# Altium footprint library pcb.PcbLib: 11 footprints
Each footprint in its own frame and in the unit in brackets; x right, y up, seen from the top. Pads: shape width x height; smd on the part's side, far side on the other; paste and mask are expansions set on the pad; w line width, h text height; cw(c..) or ccw(c..) is an arc to the next point about the centre after c.
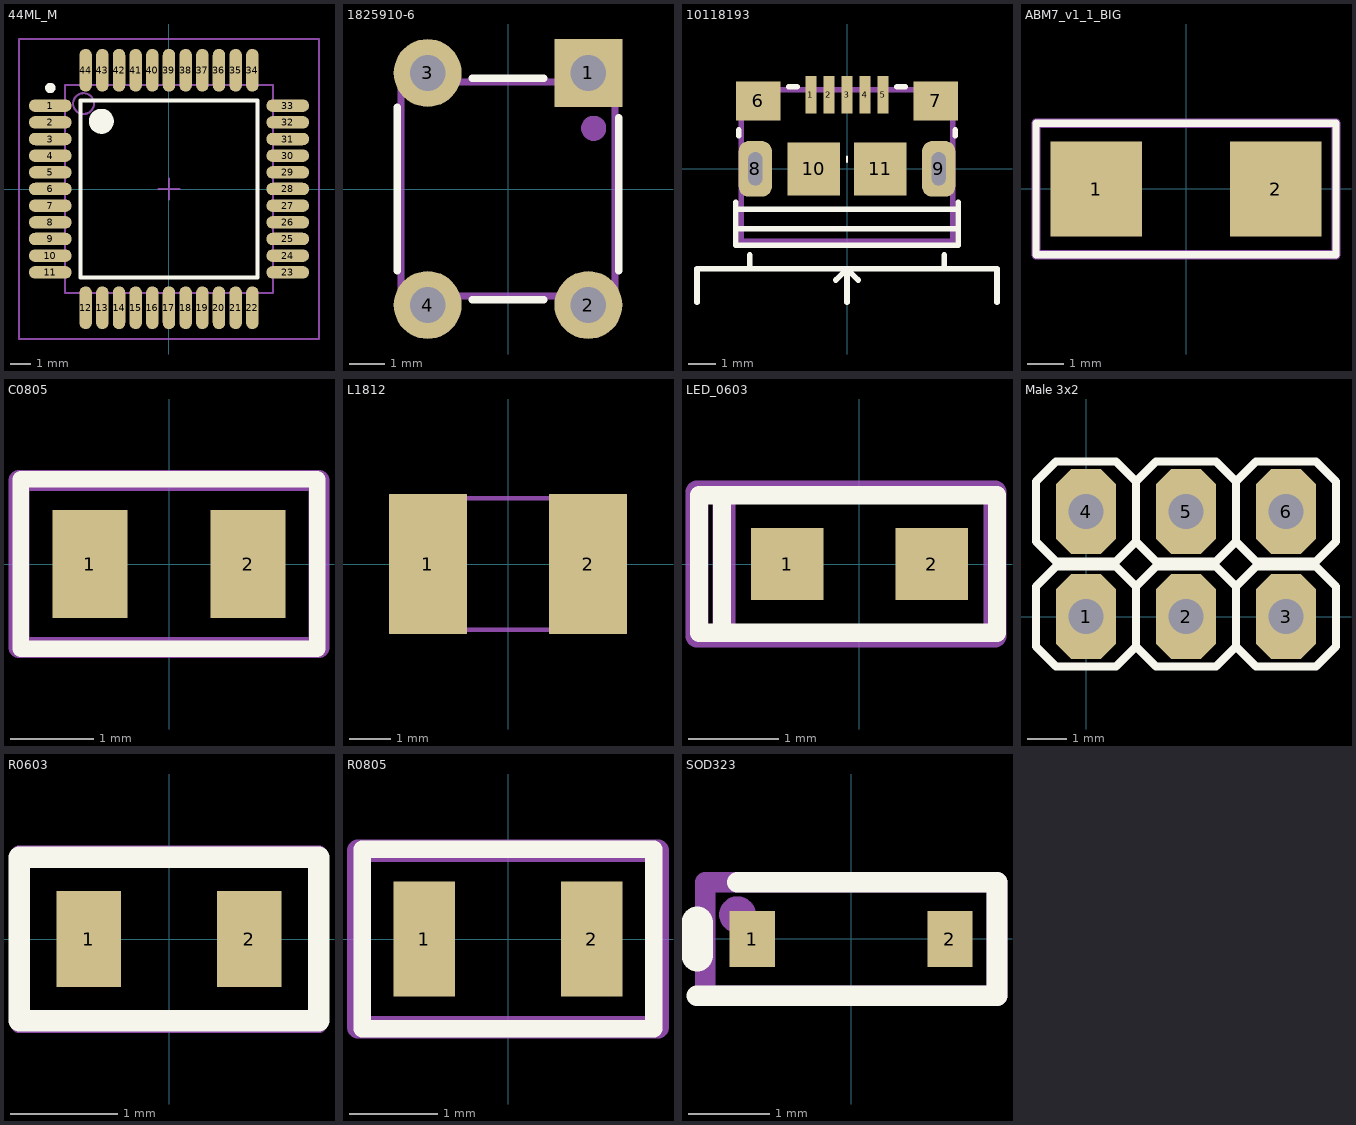
[diagram p0: the footprints below, top view; thin cyan lines are the x and y axes]

## 44ML_M [mm] "Thin QFP, 44-Leads, Body 10x10mm, Pitch 0.8mm, IPC Low Density"
height 1.2
pads (44):
  oval 2.05x0.6 smd: 1(-5.7,4) 2(-5.7,3.2) 3(-5.7,2.4) 4(-5.7,1.6) 5(-5.7,0.8) 6(-5.7,0) 7(-5.7,-0.8) 8(-5.7,-1.6) 9(-5.7,-2.4) 10(-5.7,-3.2) 11(-5.7,-4) 23(5.7,-4) 24(5.7,-3.2) 25(5.7,-2.4) 26(5.7,-1.6) 27(5.7,-0.8) 28(5.7,0) 29(5.7,0.8) 30(5.7,1.6) 31(5.7,2.4) 32(5.7,3.2) 33(5.7,4)
  oval 0.6x2.05 smd: 12(-4,-5.7) 13(-3.2,-5.7) 14(-2.4,-5.7) 15(-1.6,-5.7) 16(-0.8,-5.7) 17(0,-5.7) 18(0.8,-5.7) 19(1.6,-5.7) 20(2.4,-5.7) 21(3.2,-5.7) 22(4,-5.7) 34(4,5.7) 35(3.2,5.7) 36(2.4,5.7) 37(1.6,5.7) 38(0.8,5.7) 39(0,5.7) 40(-0.8,5.7) 41(-1.6,5.7) 42(-2.4,5.7) 43(-3.2,5.7) 44(-4,5.7)
Top Overlay:
  circle w0.25: c-5.7,4.85 r0.125
  circle w0.6: c-3.25,3.25 r0.3
  lines w0.2: -4.25,-4.25 -4.25,4.25 4.25,4.25 4.25,-4.25 -4.25,-4.25
Mechanical 13:
  circle w0.1: c-4.1,4.1 r0.5
  lines w0.1: -5,-5 -5,5 5,5 5,-5 -5,-5
Mechanical 15:
  lines w0.1: -0.5,0 0.5,0 ; 0,-0.5 0,0.5 ; -7.2,-7.2 -7.2,7.2 7.2,7.2 7.2,-7.2 -7.2,-7.2
3D body: height 1.2, standoff 0, extent -5,-5 5,5

## 1825910-6 [mm]
pads (4):
  rect 1.9x1.9 hole 1: 1(2.25,3.25)
  round 1.9 hole 1: 2(2.25,-3.25) 3(-2.25,3.25) 4(-2.25,-3.25)
Top Overlay:
  lines w0.2: -3.1,-2.3 -3.1,2.3 ; -1,-3.1 1,-3.1 ; -1,3.1 1,3.1 ; 3.1,-2.3 3.1,2
Mechanical 16:
  circle w0.5: c2.4,1.7 r0.1
  lines w0.2: -3,-3 -3,3 3,3 3,-3 -3,-3
Mechanical 29:
  text ".Designator" at 0.6,-1.8 h1.6
3D body "FSM4JLH(1825910-5).step": height 5, standoff -3.51, extent -2.995,-3.898 2.995,3.9

## 10118193 [mm]
pads (11):
  rect 0.4x1.35 smd mask+0.05: 1(-1.3,2.675) 2(-0.65,2.675) 3(0,2.675) 4(0.65,2.675) 5(1.3,2.675)
  rect 1.6x1.4 smd: 6(-3.2,2.45) 7(3.2,2.45)
  rrect60% 1.2x2 hole 0.5 slot 1.2 at 90 deg: 8(-3.3,0) 9(3.3,0)
  rect 1.9x1.9 smd paste-10: 10(-1.2,0) 11(1.2,0)
Top Overlay:
  lines w0.08: 0,0.25 0,0.45
  lines w0.2: -5.4,-4.8 -5.4,-3.6 5.4,-3.6 5.4,-4.8 ; -4,-2.15 4,-2.15 ; -4,-1.45 4,-1.45 ; -4,-1.2 -4,-2.75 4,-2.75 4,-1.2 ; -3.9,1.2 -3.9,1.4 ; -3.5,-3.6 -3.5,-3.1 ; -2.1,2.95 -1.8,2.95 ; -0.4,-4 0,-3.6 ; 0,-4.8 0,-3.6 ; 0.4,-4 0,-3.6 ; 1.8,2.95 2.1,2.95 ; 3.5,-3.6 3.5,-3.1 ; 3.9,1.2 3.9,1.4
Mechanical 16:
  lines w0.2: -3.8,-2.6 3.8,-2.6 3.8,2.85 -3.8,2.85 -3.8,-2.6
Mechanical 29:
  text ".Designator" at 0.6,-1.2 h1.52
3D body "10118193.step": height 2.85, standoff -0.75, extent -3.929,-2.76 3.928,2.9

## ABM7_v1_1_BIG [mm]
pads (2):
  rect 2.5x2.6 smd: 1(-2.45,0) 2(2.45,0)
Top Overlay:
  lines w0.2: -4.1,-1.8 -4.1,1.8 4.1,1.8 4.1,-1.8 -4.1,-1.8
Mechanical 16:
  lines w0.254: -4.1,-1.8 -4.1,1.8 4.1,1.8 4.1,-1.8 -4.1,-1.8
Mechanical 29:
  text ".Designator" at -1.3,-0.7 h1.52
3D body "Xtal-ABM7.STEP": height 1.44, standoff 0.04, extent -3.1,-1.85 3.1,1.85
3D body: height 1.45, standoff 1.4, extent -2,-1.3 2,1.5

## C0805 [mm]
pads (2):
  rect 0.9x1.3 smd: 1(-0.95,0) 2(0.95,0)
Top Overlay:
  lines w0.2: -1.778,-1.016 1.778,-1.016 1.778,1.016 -1.778,1.016 -1.778,-1.016
Mechanical 16:
  lines w0.254: -1.8,-1 1.8,-1 1.8,1 -1.8,1 -1.8,-1
Mechanical 29:
  text ".Designator" at -0.5,-0.3 h0.6
3D body "CAPC2012X95N EIA 0805.step": height 0.95, standoff 0, extent -1,-0.6 1,0.6
3D body "CAPC2012X95N EIA 0805.step": height 1.5, standoff 0.55, extent -1,-0.6 1,0.6

## L1812 [mm]
pads (2):
  rect 1.9x3.4 smd: 1(-1.95,0) 2(1.95,0)
Mechanical 16:
  rectangle: -2.388,-1.651 -1.438,1.649
  rectangle: 1.448,-1.651 2.398,1.649
  lines w0.102: -1.473,1.6 1.473,1.6 ; -1.448,-1.6 1.473,-1.6
3D body "mf-msmf050.stp": height 0.7, standoff 0, extent -2.275,-1.62 2.275,1.62

## LED_0603 [mm]
pads (2):
  rect 0.8x0.8 smd: 1(-0.8,0) 2(0.8,0)
Top Overlay:
  lines w0.2: -1.524,-0.762 -1.524,0.762 ; -1.778,-0.762 1.524,-0.762 1.524,0.762 -1.778,0.762 -1.778,-0.762
Mechanical 16:
  lines w0.254: -1.5,-0.8 -1.5,0.8 ; -1.8,-0.8 -1.8,0.8 1.5,0.8 1.5,-0.8 -1.8,-0.8
Mechanical 29:
  text ".Designator" at -0.5,-0.3 h0.6
3D body "LED SMD 0603.step": height 0.65, standoff 0, extent -0.85,-0.4 0.85,0.4
3D body: height 0.66, standoff 0.5, extent -0.2,-0.2 0.2,0.2

## Male 3x2 [mil]
pads (6):
  oct 60x85 hole 35: 1(0,0) 2(100,0) 3(200,0) 4(0,105) 5(100,105) 6(200,105)
Top Overlay:
  lines w8: -30,50 30,50 ; -30,50 -50,30 -50,-30 -30,-50 30,-50 50,-30 ; -30,50 30,50 ; -30,155 30,155 ; -30,155 -50,135 -50,75 -30,55 30,55 50,75 ; -30,155 30,155 ; 30,50 50,30 ; 30,155 50,135 ; 50,-30 50,30 ; 50,-30 50,30 ; 50,-30 50,30 ; 50,-30 70,-50 130,-50 150,-30 ; 50,30 70,50 ; 50,75 50,135 ; 50,75 50,135 ; 50,75 50,135 ; 50,75 70,55 130,55 150,75 ; 50,135 70,155 ; 70,50 130,50 ; 70,50 130,50 ; 70,155 130,155 ; 70,155 130,155 ; 130,50 150,30 ; 130,155 150,135 ; 150,-30 150,30 ; 150,-30 150,30 ; 150,-30 150,30 ; 150,-30 170,-50 230,-50 250,-30 ; 150,30 170,50 ; 150,75 150,135 ; 150,75 150,135 ; 150,75 150,135 ; 150,75 170,55 230,55 250,75 ; 150,135 170,155 ; 170,50 230,50 ; 170,50 230,50 ; 170,155 230,155 ; 170,155 230,155 ; 230,50 250,30 ; 230,155 250,135 ; 250,-30 250,30 ; 250,-30 250,30 ; 250,75 250,135 ; 250,75 250,135
3D body: height 460, standoff -120, extent -10,-10 10,10
3D body: height 100, standoff 0, extent -50.02,-50.02 50.02,50.02
3D body: height 460, standoff -120, extent 90,-10 110,10
3D body: height 100, standoff 0, extent 49.98,-50.02 150.02,50.02
3D body: height 460, standoff -120, extent 190,-10 210,10
3D body: height 100, standoff 0, extent 149.98,-50.02 250.02,50.02
3D body: height 460, standoff -120, extent -10,95 10,115
3D body: height 100, standoff 0, extent -50.02,54.98 50.02,155.02
3D body: height 460, standoff -120, extent 90,95 110,115
3D body: height 100, standoff 0, extent 49.98,54.98 150.02,155.02
3D body: height 460, standoff -120, extent 190,95 210,115
3D body: height 100, standoff 0, extent 149.98,54.98 250.02,155.02

## R0603 [mm]
pads (2):
  rect 0.6x0.9 smd: 1(-0.75,0) 2(0.75,0)
Top Overlay:
  lines w0.2: -1.397,-0.762 -1.397,0.762 1.397,0.762 1.397,-0.762 -1.397,-0.762
Mechanical 16:
  lines w0.15: -1.4,-0.8 -1.4,0.8 1.4,0.8 1.4,-0.8 -1.4,-0.8
Mechanical 29:
  text ".Designator" at 0.3,0.3 h0.6
3D body "R0603.step": height 0.8, standoff 0, extent -0.8,-0.42 0.8,0.42

## R0805 [mm]
pads (2):
  rect 0.7x1.3 smd: 1(-0.95,0) 2(0.95,0)
Top Overlay:
  lines w0.2: -1.651,-1.016 -1.651,1.016 1.651,1.016 1.651,-1.016 -1.651,-1.016
Mechanical 16:
  lines w0.254: -1.7,-1 -1.7,1 1.7,1 1.7,-1 -1.7,-1
Mechanical 29:
  text ".Designator" at -1.6,1.2 h0.8
3D body "R0805.step": height 0.7, standoff 0, extent -1,-0.6 1,0.6

## SOD323 [mil]
pads (2):
  rect 22x27 smd mask+3: 1(-48,0) 2(48,0)
Top Overlay:
  lines w10: -74.8,-27.56 70.87,-27.56 70.87,27.56 -55.12,27.56
  lines w15.75: -74.8,-7.87 -74.8,7.87
Mechanical 16:
  circle w10: c-55.12,11.81 r3.94
  lines w10: -70.87,-27.56 -70.87,27.56 70.87,27.56 70.87,-27.56 -70.87,-27.56
Mechanical 29:
  text ".Designator" at -11.81,-7.87 h15.75
3D body "SOD323.step": height 38.78, standoff -0.2, extent -49.21,-24.6 49.21,24.61